# Altium schematic symbol library PowerDistributionBoard.SCHLIB: 1 symbol
Pins are listed as number, name and electrical type; pins without a type are passive.

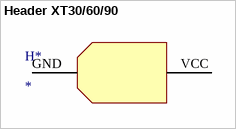
[diagram p0: symbol Header XT30/60/90]

## Header XT30/60/90
designator H*
pins: GND (power), VCC (power)